# Altium footprint library PWR_HDR_10P.PcbLib: 1 footprints
Each footprint in its own frame and in the unit in brackets; x right, y up, seen from the top. Pads: shape width x height; smd on the part's side, far side on the other; paste and mask are expansions set on the pad; w line width, h text height; cw(c..) or ccw(c..) is an arc to the next point about the centre after c.
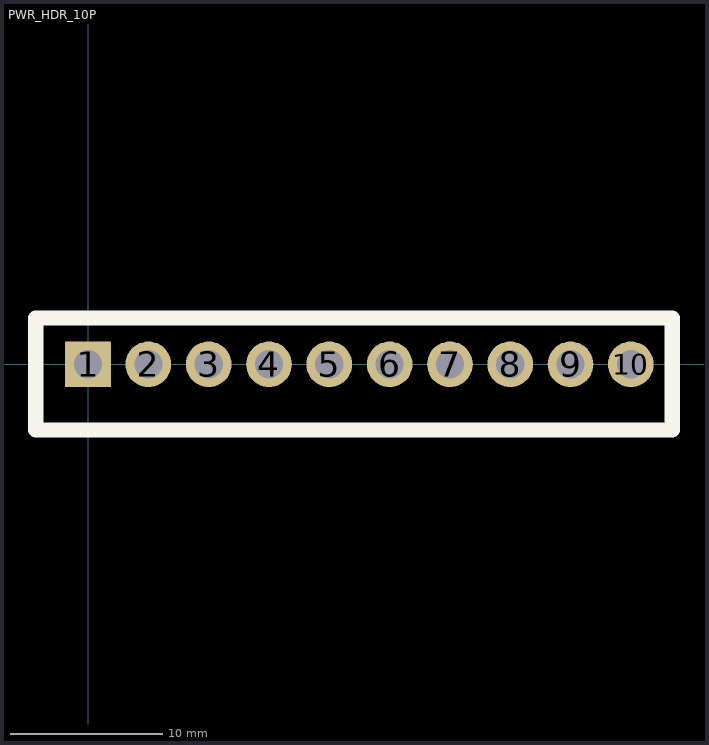
[diagram p0: the footprint, top view; thin cyan lines are the x and y axes]

## PWR_HDR_10P [mm]
pads (10):
  rect 3x3 hole 1.85: 1(0,0)
  round 3 hole 1.85: 2(3.96,0) 3(7.92,0) 4(11.88,0) 5(15.84,0) 6(19.8,0) 7(23.76,0) 8(27.72,0) 9(31.68,0) 10(35.64,0)
Top Overlay:
  lines w1: -3.429,-4.318 38.354,-4.318 38.354,3.048 -3.429,3.048 -3.429,-4.318